# EAGLE library part LMP7701MA_NOPB (library LMP7701MA_NOPB)
Precision, CMOS Input, RRIO, Wide Supply Range Single Amplifier Source: Datasheet <http://www.ti.com/lit/gpn/lmp7701>
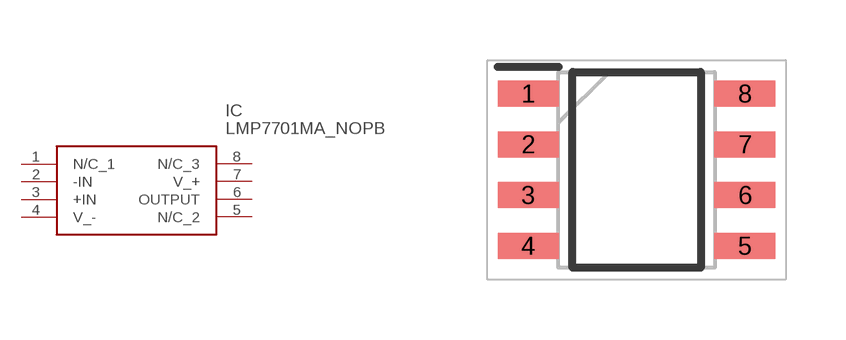
[diagram p0: symbol with the pads of SOIC127P600X175-8N; footprint SOIC127P600X175-8N]

Designator prefix IC

## LMP7701MA_NOPB (Description: Precision, CMOS Input, RRIO, Wide Supply Range Single Amplifier; Height: 1.75mm; Manufacturer_Name: Texas Instruments; Manufacturer_Part_Number: LMP7701MA/NOPB; Mouser_Part_Number: 926-LMP7701MA/NOPB; Mouser_Price-Stock: https://www.mouser.co.uk/ProductDetail/Texas-Instruments/LMP7701MA-NOPB?qs=7lkVKPoqpbb6Q12lvZ%252Bsng%3D%3D)  [SOIC127P600X175-8N]
1  N/C_1
2  -IN
3  +IN
4  V_-
5  N/C_2
6  OUTPUT
7  V_+
8  N/C_3

## Footprint SOIC127P600X175-8N (pad centres in mm)
D (R-PDSO-G8)
smd 1.525 x 0.65: 1 -2.712,1.905; 2 -2.712,0.635; 3 -2.712,-0.635; 4 -2.712,-1.905; 5 2.712,-1.905; 6 2.712,-0.635; 7 2.712,0.635; 8 2.712,1.905